# EAGLE library part 1996236 (library power_connectors)
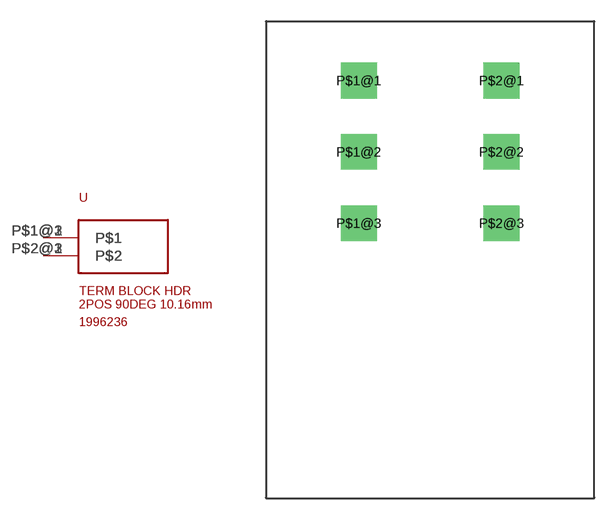
[diagram p1: symbol with the pads of TERM-2POS-10.16MM-1996236; footprint TERM-2POS-10.16MM-1996236]

Designator prefix -

## 1996236  [TERM-2POS-10.16MM-1996236]
P$1@1  P$1
P$1@2  P$1
P$1@3  P$1
P$2@1  P$2
P$2@2  P$2
P$2@3  P$2

## Footprint TERM-2POS-10.16MM-1996236 (pad centres in mm)
drill 1.7 square: P$1@1 -5.08,0; P$1@2 -5.08,-5.08; P$1@3 -5.08,-10.16; P$2@1 5.08,0; P$2@2 5.08,-5.08; P$2@3 5.08,-10.16